# Altium schematic symbol library BQ24195LRGER.SchLib: 2 symbols
Pins are listed as number, name and electrical type; pins without a type are passive.

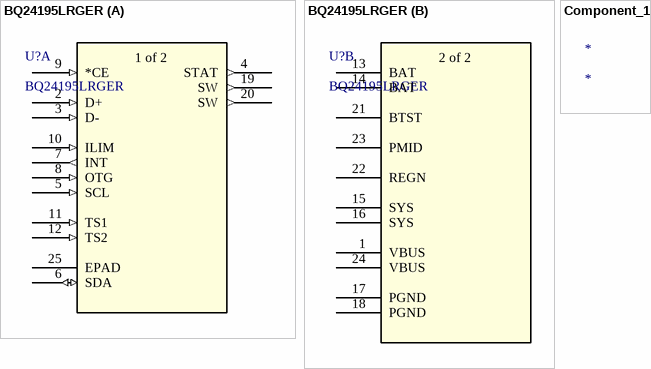
[diagram p0: symbols BQ24195LRGER to Component_1]

## BQ24195LRGER
designator U?
No Description Available; Mfr_Name: Texas Instruments; Copyright: Copyright (C) 2023 Ultra Librarian. All rights reserved.; Manufacturer_Part_Number: BQ24195LRGER; Digi-Key_Part_Number_1: 2156-BQ24195LRGER-ND; Digi-Key_Part_Number_2: 296-49149-1-ND; Digi-Key_Part_Number_3: 296-49149-2-ND; Digi-Key_Part_Number_4: 296-49149-6-ND; Digi-Key_Part_Number_5: BQ24195LRGER-ND; RefDes: RefDes; Type: DEV
footprint RGE24_2P7X2P7_TEX
part A pins: 2 D+ (in), 3 D- (in), 4 STAT (out), 5 SCL (in), 6 SDA (io), 7 INT (out), 8 OTG (in), 9 *CE (in), 10 ILIM (in), 11 TS1 (in), 12 TS2 (in), 19 SW (out), 20 SW (out), 25 EPAD
part B pins: 1 VBUS (power), 13 BAT (power), 14 BAT (power), 15 SYS (power), 16 SYS (power), 17 PGND (power), 18 PGND (power), 21 BTST (power), 22 REGN (power), 23 PMID (power), 24 VBUS (power)
part A text: 1 of 2
part B text: 2 of 2

## Component_1
designator *